# EAGLE library part HFA3127 (library di_ic)
HFA3127 - Ultra High Frequency Transistor Arrays
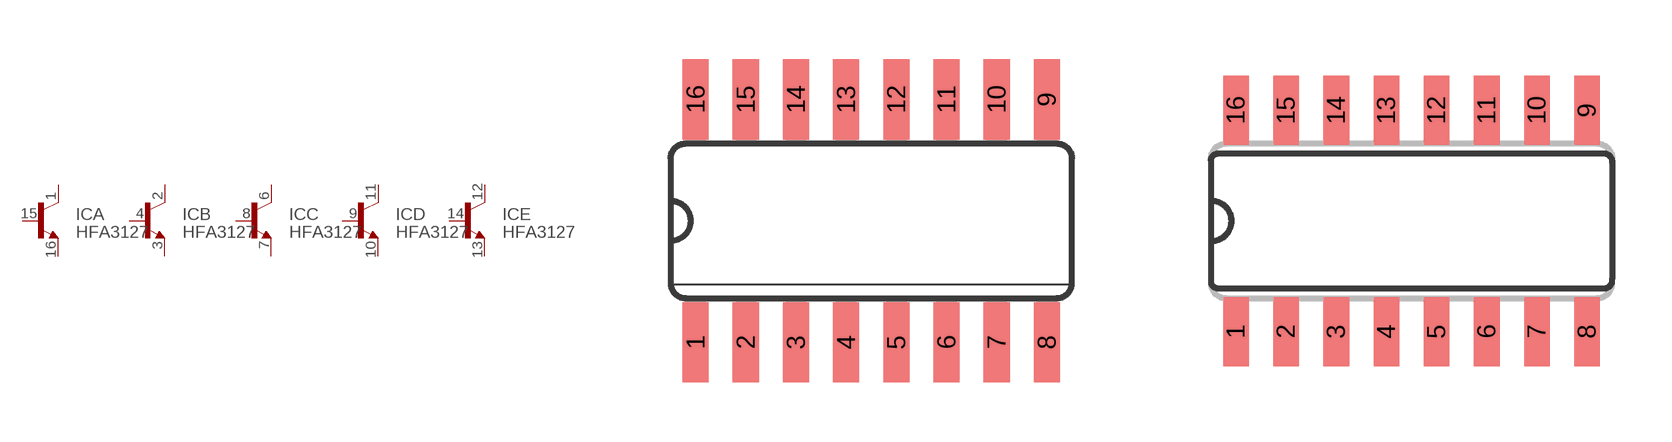
[diagram p11: symbol with the pads of SO16; footprints SO16, SO16N]

Designator prefix IC; gates A=NPN B=NPN C=NPN D=NPN E=NPN

## HFA3127-W  [SO16]
1  A:C  pas
2  B:C  pas
3  B:E  pas
4  B:B  pas
6  C:C  pas
7  C:E  pas
8  C:B  pas
9  D:B  pas
10  D:E  pas
11  D:C  pas
12  E:C  pas
13  E:E  pas
14  E:B  pas
15  A:B  pas
16  A:E  pas

## HFA3127-N  [SO16N]
Pads as for SO16

## Footprint SO16 (pad centres in mm)
Small Outline Package .150 SIOC Source: http://www.maxim-ic.com/package_drawings/21-0041B.pdf
smd 0.66 x 2.032: 1 -4.445,-3.073; 2 -3.175,-3.073; 3 -1.905,-3.073; 4 -0.635,-3.073; 5 0.635,-3.073; 6 1.905,-3.073; 7 3.175,-3.073; 8 4.445,-3.073; 9 4.445,3.073; 10 3.175,3.073; 11 1.905,3.073; 12 0.635,3.073; 13 -0.635,3.073; 14 -1.905,3.073; 15 -3.175,3.073; 16 -4.445,3.073

## Footprint SO16N (pad centres in mm)
smd 0.65 x 1.75: 1 -4.445,-2.8; 2 -3.175,-2.8; 3 -1.905,-2.8; 4 -0.635,-2.8; 5 0.635,-2.8; 6 1.905,-2.8; 7 3.175,-2.8; 8 4.445,-2.8; 9 4.445,2.8; 10 3.175,2.8; 11 1.905,2.8; 12 0.635,2.8; 13 -0.635,2.8; 14 -1.905,2.8; 15 -3.175,2.8; 16 -4.445,2.8